# Altium schematic symbol library MOSFET_8HSOF.SchLib: 1 symbol
Pins are listed as number, name and electrical type; pins without a type are passive.

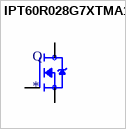
[diagram p0: symbol IPT60R028G7XTMA1]

## IPT60R028G7XTMA1
designator Q
Gives best-in-class FOM R DS_on_xE oss and R DS_on_xQ G | Enables best-in-class R DS_on_ in smallest footprint; MF: Infineon Technologies; MP: IPT60R028G7XTMA1; Digi-Key_Part_Number: IPT60R028G7XTMA1CT-ND; SnapEDA_Link: https://www.snapeda.com/parts/IPT60R028G7XTMA1/Infineon%20Technologies/view-part/748997/?ref=snap; Package: PowerSFN-8 Infineon Technologies; Digi-Key_Purchase_URL: https://www.digikey.com/product-detail/en/infineon-technologies/IPT60R028G7XTMA1/IPT60R028G7XTMA1CT-ND/8655821?utm_source=snapeda&utm_medium=aggregator&utm_campaign=symbol; Value: *
footprint TRANS_IPT60R028G7XTMA1
pins: 1 GATE, 2 SOURCE, 3 SOURCE, 4 SOURCE, 5 SOURCE, 6 SOURCE, 7 SOURCE, 8 SOURCE, 9 DRAIN